# Altium schematic symbol library 5.4 - 2.0mm连接器(PHB2.0_PHD2.0_2.0排针排母).SchLib: 38 symbols
Pins are listed as number, name and electrical type; pins without a type are passive.

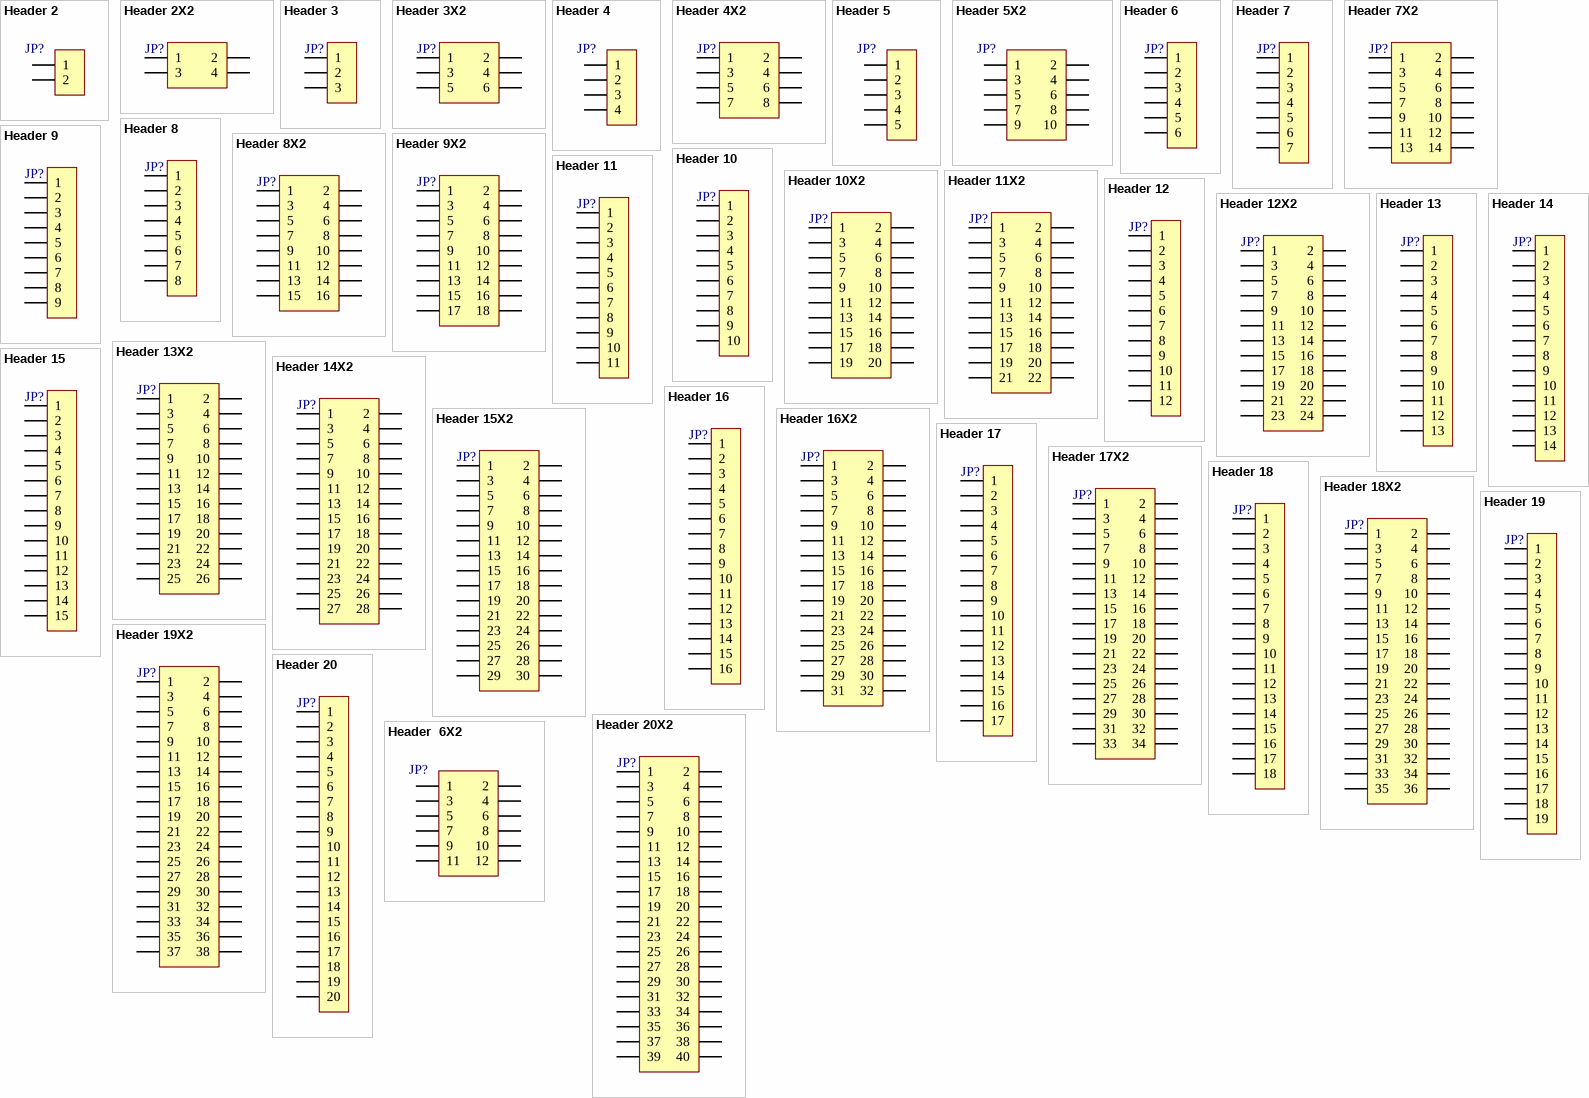
[diagram p0: symbols Header 2 to Header  6X2]

## Header 2
designator JP?, comment HDR-1X2  (value not drawn)
2P接插件; 以赠品形式获赠本封装库的买家，还可联系卖家免费指导AD软件使用: 联系卖家 免费技术支持; 联系卖家，免费查找封装: 唯一出售店铺网址https://shop463601444.taobao.com; BOM名称: 2P接插件
footprint PH2.0-W-2P (长：5.9mm，宽：6mm，高：4.7mm)
footprint PH2.0-L-2P (长：5.9mm，宽：4.7mm，高：6mm)
footprint PH2.0-WT-2P (长：8mm，宽：7.6mm，高：5.5mm)
footprint PH2.0-LT-2P (长：8mm，宽：5.5mm，高：6.1mm)
footprint HDR2.0-LI-2P (直插，脚距：2.0mm)
footprint HDR2.0-M-LI-2P (直插排母，脚距：2.0mm)
pins: 1, 2

## Header 2X2
designator JP?, comment Header2X2  (value not drawn)
2*2P接插件; 以赠品形式获赠本封装库的买家，还可联系卖家免费指导AD软件使用: 联系卖家 免费技术支持; 联系卖家，免费查找封装: 唯一出售店铺网址https://shop463601444.taobao.com
footprint PHB2.0-LI-2x2P (长：6mm，宽：7.3mm，高：7.8mm)
footprint PHD2.0-LI-2x2P (4脚，长：6mm，宽：5mm，高：6.5mm)
pins: 1, 2, 3, 4

## Header 3
designator JP?, comment HDR-1X3  (value not drawn)
3P接插件; 以赠品形式获赠本封装库的买家，还可联系卖家免费指导AD软件使用: 联系卖家 免费技术支持; 联系卖家，免费查找封装: 唯一出售店铺网址https://shop463601444.taobao.com; BOM名称: 3P接插件
footprint PH2.0-W-3P (长：7.9mm，宽：6mm，高：4.7mm)
footprint PH2.0-L-3P (长：7.9mm，宽：4.7mm，高：6mm        淘宝ID:黄晶宝石)
footprint PH2.0-WT-3P (长：10mm，宽：7.6mm，高：5.5mm)
footprint PH2.0-LT-3P (长：10mm，宽：5.5mm，高：6.1mm)
footprint HDR2.0-LI-3P (直插，脚距：2.0mm)
footprint HDR2.0-M-LI-3P (直插排母，脚距：2.0mm)
pins: 1, 2, 3

## Header 3X2
designator JP?, comment Header3X2  (value not drawn)
3*2P接插件; 以赠品形式获赠本封装库的买家，还可联系卖家免费指导AD软件使用: 联系卖家 免费技术支持; 联系卖家，免费查找封装: 唯一出售店铺网址https://shop463601444.taobao.com
footprint PHB2.0-LI-2x3P (长：8mm，宽：7.3mm，高：7.8mm)
footprint PHD2.0-LI-2x3P (6脚，长：8mm，宽：5mm，高：6.5mm)
pins: 1, 2, 3, 4, 5, 6

## Header 4
designator JP?, comment HDR-1X4  (value not drawn)
4P接插件; 以赠品形式获赠本封装库的买家，还可联系卖家免费指导AD软件使用: 联系卖家 免费技术支持; 联系卖家，免费查找封装: 唯一出售店铺网址https://shop463601444.taobao.com
footprint PH2.0-W-4P (长：9.9mm，宽：6mm，高：4.7mm)
footprint PH2.0-L-4P (长：9.9mm，宽：4.7mm，高：6mm    淘宝ID:黄晶宝石)
footprint PH2.0-WT-4P (长：12mm，宽：7.6mm，高：5.5mm)
footprint PH2.0-LT-4P (长：12mm，宽：5.5mm，高：6.1mm)
footprint HDR2.0-LI-4P (直插，脚距：2.0mm)
footprint HDR2.0-M-LI-4P (直插排母，脚距：2.0mm)
pins: 1, 2, 3, 4

## Header 4X2
designator JP?  (value not drawn)
4*2P接插件; 以赠品形式获赠本封装库的买家，还可联系卖家免费指导AD软件使用: 联系卖家 免费技术支持; 联系卖家，免费查找封装: 唯一出售店铺网址https://shop463601444.taobao.com
footprint PHB2.0-LI-2x4P (长：10mm，宽：7.3mm，高：7.8mm)
footprint PHD2.0-LI-2x4P (8脚，长：10mm，宽：5mm，高：6.5mm)
pins: 1, 2, 3, 4, 5, 6, 7, 8

## Header 5
designator JP?, comment HDR-1X5  (value not drawn)
5P接插件; 以赠品形式获赠本封装库的买家，还可联系卖家免费指导AD软件使用: 联系卖家 免费技术支持; 联系卖家，免费查找封装: 唯一出售店铺网址https://shop463601444.taobao.com
footprint PH2.0-W-5P (长：11.9mm，宽：6mm，高：4.7mm)
footprint PH2.0-L-5P (长：11.9mm，宽：4.7mm，高：6mm  淘宝ID:黄晶宝石)
footprint PH2.0-WT-5P (长：14mm，宽：7.6mm，高：5.5mm)
footprint PH2.0-LT-5P (长：14mm，宽：5.5mm，高：6.1mm)
footprint HDR2.0-LI-5P (直插，脚距：2.0mm)
footprint HDR2.0-M-LI-5P (直插排母，脚距：2.0mm)
pins: 1, 2, 3, 4, 5

## Header 5X2
designator JP?  (value not drawn)
5*2P接插件; 以赠品形式获赠本封装库的买家，还可联系卖家免费指导AD软件使用: 联系卖家 免费技术支持; 联系卖家，免费查找封装: 唯一出售店铺网址https://shop463601444.taobao.com
footprint PHB2.0-LI-2x5P (长：12mm，宽：7.3mm，高：7.8mm)
footprint PHD2.0-LI-2x5P (10脚，长：12mm，宽：5mm，高：6.5mm)
pins: 1, 2, 3, 4, 5, 6, 7, 8, 9, 10

## Header 6
designator JP?, comment HDR-1X6  (value not drawn)
6P接插件; 以赠品形式获赠本封装库的买家，还可联系卖家免费指导AD软件使用: 联系卖家 免费技术支持; 联系卖家，免费查找封装: 唯一出售店铺网址https://shop463601444.taobao.com
footprint PH2.0-W-6P (长：13.9mm，宽：6mm，高：4.7mm)
footprint PH2.0-L-6P (长：13.9mm，宽：4.7mm，高：6mm    淘宝ID:黄晶宝石)
footprint PH2.0-WT-6P (长：16mm，宽：7.6mm，高：5.5mm)
footprint PH2.0-LT-6P (长：16mm，宽：5.5mm，高：6.1mm)
footprint HDR2.0-LI-6P (直插，脚距：2.0mm)
footprint HDR2.0-M-LI-6P (直插排母，脚距：2.0mm)
pins: 1, 2, 3, 4, 5, 6

## Header 7
designator JP?, comment HDR-1X7  (value not drawn)
7P接插件; 以赠品形式获赠本封装库的买家，还可联系卖家免费指导AD软件使用: 联系卖家 免费技术支持; 联系卖家，免费查找封装: 唯一出售店铺网址https://shop463601444.taobao.com
footprint PH2.0-W-7P (长：15.9mm，宽：6mm，高：4.7mm)
footprint PH2.0-L-7P (长：15.9mm，宽：4.7mm，高：6mm)
footprint PH2.0-WT-7P (长：18mm，宽：7.6mm，高：5.5mm)
footprint PH2.0-LT-7P (长：18mm，宽：5.5mm，高：6.1mm)
footprint HDR2.0-LI-7P (直插，脚距：2.0mm)
footprint HDR2.0-M-LI-7P (直插排母，脚距：2.0mm)
pins: 1, 2, 3, 4, 5, 6, 7

## Header 7X2
designator JP?, comment Header 2X7  (value not drawn)
7*2P接插件; 以赠品形式获赠本封装库的买家，还可联系卖家免费指导AD软件使用: 联系卖家 免费技术支持; 联系卖家，免费查找封装: 唯一出售店铺网址https://shop463601444.taobao.com
footprint PHB2.0-LI-2x7P (长：16mm，宽：7.3mm，高：7.8mm)
footprint PHD2.0-LI-2x7P (14脚，长：16mm，宽：5mm，高：6.5mm)
pins: 1, 2, 3, 4, 5, 6, 7, 8, 9, 10, 11, 12, 13, 14

## Header 8
designator JP?, comment HDR-1X8  (value not drawn)
8P接插件; 以赠品形式获赠本封装库的买家，还可联系卖家免费指导AD软件使用: 联系卖家 免费技术支持; 联系卖家，免费查找封装: 唯一出售店铺网址https://shop463601444.taobao.com
footprint PH2.0-W-8P (长：17.9mm，宽：6mm，高：4.7mm     淘宝ID:黄晶宝石)
footprint PH2.0-L-8P (长：17.9mm，宽：4.7mm，高：6mm)
footprint PH2.0-WT-8P (长：20mm，宽：7.6mm，高：5.5mm     淘宝ID:黄晶宝石)
footprint PH2.0-LT-8P (长：20mm，宽：5.5mm，高：6.1mm     淘宝ID:黄晶宝石)
footprint HDR2.0-LI-8P (直插，脚距：2.0mm)
footprint HDR2.0-M-LI-8P (直插排母，脚距：2.0mm)
pins: 1, 2, 3, 4, 5, 6, 7, 8

## Header 8X2
designator JP?  (value not drawn)
8*2P接插件; 以赠品形式获赠本封装库的买家，还可联系卖家免费指导AD软件使用: 联系卖家 免费技术支持; 联系卖家，免费查找封装: 唯一出售店铺网址https://shop463601444.taobao.com
footprint PHB2.0-LI-2x8P (长：18mm，宽：7.3mm，高：7.8mm)
footprint PHD2.0-LI-2x8P (16脚，长：18mm，宽：5mm，高：6.5mm)
pins: 1, 2, 3, 4, 5, 6, 7, 8, 9, 10, 11, 12, 13, 14, 15, 16

## Header 9
designator JP?, comment HDR-1X9  (value not drawn)
9P接插件; 以赠品形式获赠本封装库的买家，还可联系卖家免费指导AD软件使用: 联系卖家 免费技术支持; 联系卖家，免费查找封装: 唯一出售店铺网址https://shop463601444.taobao.com
footprint PH2.0-W-9P (长：19.9mm，宽：6mm，高：4.7mm)
footprint PH2.0-L-9P (长：19.9mm，宽：4.7mm，高：6mm)
footprint PH2.0-WT-9P (长：22mm，宽：7.6mm，高：5.5mm)
footprint PH2.0-LT-9P (长：22mm，宽：5.5mm，高：6.1mm)
footprint HDR2.0-LI-9P (直插，脚距：2.0mm)
footprint HDR2.0-M-LI-9P (直插排母，脚距：2.0mm)
pins: 1, 2, 3, 4, 5, 6, 7, 8, 9

## Header 9X2
designator JP?  (value not drawn)
9*2P接插件; 以赠品形式获赠本封装库的买家，还可联系卖家免费指导AD软件使用: 联系卖家 免费技术支持; 联系卖家，免费查找封装: 唯一出售店铺网址https://shop463601444.taobao.com
footprint PHB2.0-LI-2x9P (长：20mm，宽：7.3mm，高：7.8mm)
footprint PHD2.0-LI-2x9P (18脚，长：20mm，宽：5mm，高：6.5mm)
pins: 1, 2, 3, 4, 5, 6, 7, 8, 9, 10, 11, 12, 13, 14, 15, 16, 17, 18

## Header 10
designator JP?, comment HDR-1X10  (value not drawn)
10P接插件; 以赠品形式获赠本封装库的买家，还可联系卖家免费指导AD软件使用: 联系卖家 免费技术支持; 联系卖家，免费查找封装: 唯一出售店铺网址https://shop463601444.taobao.com
footprint PH2.0-W-10P (长：21.9mm，宽：6mm，高：4.7mm)
footprint PH2.0-L-10P (长：21.9mm，宽：4.7mm，高：6mm)
footprint PH2.0-WT-10P (长：24mm，宽：7.6mm，高：5.5mm    淘宝ID:黄晶宝石)
footprint PH2.0-LT-10P (长：24mm，宽：5.5mm，高：6.1mm)
footprint HDR2.0-LI-10P (直插，脚距：2.0mm)
footprint HDR2.0-M-LI-10P (直插排母，脚距：2.0mm)
pins: 1, 2, 3, 4, 5, 6, 7, 8, 9, 10

## Header 10X2
designator JP?, comment Header 2X10  (value not drawn)
10*2P接插件; 以赠品形式获赠本封装库的买家，还可联系卖家免费指导AD软件使用: 联系卖家 免费技术支持; 联系卖家，免费查找封装: 唯一出售店铺网址https://shop463601444.taobao.com
footprint PHB2.0-LI-2x10P (长：22mm，宽：7.3mm，高：7.8mm)
footprint PHD2.0-LI-2x10P (20脚，长：22mm，宽：5mm，高：6.5mm)
pins: 1, 2, 3, 4, 5, 6, 7, 8, 9, 10, 11, 12, 13, 14, 15, 16, 17, 18, 19, 20

## Header 11
designator JP?, comment HDR-1X11  (value not drawn)
11P接插件; 以赠品形式获赠本封装库的买家，还可联系卖家免费指导AD软件使用: 联系卖家 免费技术支持; 联系卖家，免费查找封装: 唯一出售店铺网址https://shop463601444.taobao.com; BOM名称: 11P接插件
footprint PH2.0-W-11P (长：23.9mm，宽：6mm，高：4.7mm)
footprint PH2.0-L-11P (接插件/1A)
footprint PH2.0-WT-11P (长：26mm，宽：7.6mm，高：5.5mm)
footprint PH2.0-LT-11P (长：26mm，宽：5.5mm，高：6.1mm)
footprint HDR2.0-LI-11P (直插，脚距：2.0mm)
footprint HDR2.0-M-LI-11P (直插排母，脚距：2.0mm)
pins: 1, 2, 3, 4, 5, 6, 7, 8, 9, 10, 11

## Header 11X2
designator JP?, comment Header 2X11  (value not drawn)
11*2P接插件; 以赠品形式获赠本封装库的买家，还可联系卖家免费指导AD软件使用: 联系卖家 免费技术支持; 联系卖家，免费查找封装: 唯一出售店铺网址https://shop463601444.taobao.com
footprint PHB2.0-LI-2x11P (长：24mm，宽：7.3mm，高：7.8mm)
footprint PHD2.0-LI-2x11P (22脚，长：24mm，宽：5mm，高：6.5mm)
pins: 1, 2, 3, 4, 5, 6, 7, 8, 9, 10, 11, 12, 13, 14, 15, 16, 17, 18, 19, 20, 21, 22

## Header 12
designator JP?, comment HDR-1X12  (value not drawn)
12P接插件; 以赠品形式获赠本封装库的买家，还可联系卖家免费指导AD软件使用: 联系卖家 免费技术支持; 联系卖家，免费查找封装: 唯一出售店铺网址https://shop463601444.taobao.com; BOM名称: 12P接插件
footprint PH2.0-W-12P (长：25.9mm，宽：6mm，高：4.7mm)
footprint PH2.0-L-12P (长：23.9mm，宽：4.7mm，高：6mm)
footprint PH2.0-WT-12P (长：28mm，宽：7.6mm，高：5.5mm)
footprint PH2.0-LT-12P (长：28mm，宽：5.5mm，高：6.1mm)
footprint HDR2.0-LI-12P (直插，脚距：2.0mm)
footprint HDR2.0-M-LI-12P (直插排母，脚距：2.0mm)
pins: 1, 2, 3, 4, 5, 6, 7, 8, 9, 10, 11, 12

## Header 12X2
designator JP?, comment Header 2X11  (value not drawn)
12*2P接插件; 以赠品形式获赠本封装库的买家，还可联系卖家免费指导AD软件使用: 联系卖家 免费技术支持; 联系卖家，免费查找封装: 唯一出售店铺网址https://shop463601444.taobao.com; BOM名称: 12*2P接插件
footprint PHB2.0-LI-2x12P (长：26mm，宽：7.3mm，高：7.8mm)
footprint PHD2.0-LI-2x12P (24脚，长：26mm，宽：5mm，高：6.5mm)
pins: 1, 2, 3, 4, 5, 6, 7, 8, 9, 10, 11, 12, 13, 14, 15, 16, 17, 18, 19, 20, 21, 22, 23, 24

## Header 13
designator JP?, comment HDR-1X13  (value not drawn)
13P接插件; 以赠品形式获赠本封装库的买家，还可联系卖家免费指导AD软件使用: 联系卖家 免费技术支持; 联系卖家，免费查找封装: 唯一出售店铺网址https://shop463601444.taobao.com; BOM名称: 13P接插件
footprint PH2.0-WT-13P (长：30mm，宽：7.6mm，高：5.5mm)
footprint PH2.0-L-13P (长：25.9mm，宽：4.7mm，高：6mm)
footprint PH2.0-LT-13P (长：30mm，宽：5.5mm，高：6.1mm  淘宝ID:黄晶宝石)
footprint PH2.0-W-13P (长：27.9mm，宽：6mm，高：4.7mm)
footprint HDR2.0-M-LI-13P (淘宝ID:黄晶宝石)
footprint HDR2.0-LI-15P (直插，脚距：2.0mm                 联系卖家 免费查找封装)
pins: 1, 2, 3, 4, 5, 6, 7, 8, 9, 10, 11, 12, 13

## Header 13X2
designator JP?, comment Header 2X11  (value not drawn)
13*2P接插件; 以赠品形式获赠本封装库的买家，还可联系卖家免费指导AD软件使用: 联系卖家 免费技术支持; 联系卖家，免费查找封装: 唯一出售店铺网址https://shop463601444.taobao.com
footprint PHB2.0-LI-2x13P (长：28mm，宽：7.3mm，高：7.8mm)
footprint PHD2.0-LI-2x13P (26脚，长：28mm，宽：5mm，高：6.5mm)
pins: 1, 2, 3, 4, 5, 6, 7, 8, 9, 10, 11, 12, 13, 14, 15, 16, 17, 18, 19, 20, 21, 22, 23, 24, 25, 26

## Header 14
designator JP?, comment HDR-1X14  (value not drawn)
14P接插件; 以赠品形式获赠本封装库的买家，还可联系卖家免费指导AD软件使用: 联系卖家 免费技术支持; 联系卖家，免费查找封装: 唯一出售店铺网址https://shop463601444.taobao.com; BOM名称: 14P接插件
footprint PH2.0-WT-14P (长：32mm，宽：7.6mm，高：5.5mm)
footprint PH2.0-W-14P (长：29.9mm，宽：6mm，高：4.7mm)
footprint PH2.0-L-14P (长：27.9mm，宽：4.7mm，高：6mm)
footprint PH2.0-LT-14P (长：32mm，宽：5.5mm，高：6.1mm)
footprint HDR2.0-LI-14P (直插，脚距：2.0mm                 联系卖家 免费查找封装)
pins: 1, 2, 3, 4, 5, 6, 7, 8, 9, 10, 11, 12, 13, 14

## Header 14X2
designator JP?, comment Header 2X11  (value not drawn)
14*2P接插件; 以赠品形式获赠本封装库的买家，还可联系卖家免费指导AD软件使用: 联系卖家 免费技术支持; 联系卖家，免费查找封装: 唯一出售店铺网址https://shop463601444.taobao.com; BOM名称: 14*2P接插件
footprint PHB2.0-LI-2x14P (长：30mm，宽：7.3mm，高：7.8mm)
footprint PHD2.0-LI-2x14P (28脚，长：30mm，宽：5mm，高：6.5mm)
pins: 1, 2, 3, 4, 5, 6, 7, 8, 9, 10, 11, 12, 13, 14, 15, 16, 17, 18, 19, 20, 21, 22, 23, 24, 25, 26, 27, 28

## Header 15
designator JP?, comment HDR-1X15  (value not drawn)
15P接插件; 以赠品形式获赠本封装库的买家，还可联系卖家免费指导AD软件使用: 联系卖家 免费技术支持; 联系卖家，免费查找封装: 唯一出售店铺网址https://shop463601444.taobao.com; BOM名称: 15P接插件
footprint PH2.0-WT-15P (长：34mm，宽：7.6mm，高：5.5mm)
footprint PH2.0-LT-15P (长：34mm，宽：5.5mm，高：6.1mm)
footprint PH2.0-W-15P (长：31.9mm，宽：6mm，高：4.7mm)
footprint PH2.0-L-15P (长：27.9mm，宽：4.7mm，高：6mm)
footprint HDR2.0-M-LI-15P (直插排母，脚距：2.0mm                 联系卖家 免费查找封装)
footprint HDR2.0-LI-15P (直插，脚距：2.0mm                 联系卖家 免费查找封装)
pins: 1, 2, 3, 4, 5, 6, 7, 8, 9, 10, 11, 12, 13, 14, 15

## Header 15X2
designator JP?, comment Header 2X11  (value not drawn)
15*2P接插件; 以赠品形式获赠本封装库的买家，还可联系卖家免费指导AD软件使用: 联系卖家 免费技术支持; 联系卖家，免费查找封装: 唯一出售店铺网址https://shop463601444.taobao.com
footprint PHB2.0-LI-2x15P (长：32mm，宽：7.3mm，高：7.8mm)
footprint PHD2.0-LI-2x15P (30脚，长：32mm，宽：5mm，高：6.5mm)
pins: 1, 2, 3, 4, 5, 6, 7, 8, 9, 10, 11, 12, 13, 14, 15, 16, 17, 18, 19, 20, 21, 22, 23, 24, 25, 26, 27, 28, 29, 30

## Header 16
designator JP?, comment HDR-1X16  (value not drawn)
16P接插件; 以赠品形式获赠本封装库的买家，还可联系卖家免费指导AD软件使用: 联系卖家 免费技术支持; 联系卖家，免费查找封装: 唯一出售店铺网址https://shop463601444.taobao.com; BOM名称: 16P接插件
footprint PH2.0-WT-16P (长：36mm，宽：7.6mm，高：5.5mm)
footprint PH2.0-LT-16P (长：36mm，宽：5.5mm，高：6.1mm)
footprint PH2.0-L-16P (长：29.9mm，宽：4.7mm，高：6mm)
footprint PH2.0-W-16P (长：33.9mm，宽：6mm，高：4.7mm)
footprint HDR2.0-LI-16P (直插，脚距：2.0mm                 联系卖家 免费查找封装)
footprint HDR2.0-M-LI-16P (直插排母，脚距：2.0mm                 联系卖家 免费查找封装)
pins: 1, 2, 3, 4, 5, 6, 7, 8, 9, 10, 11, 12, 13, 14, 15, 16

## Header 16X2
designator JP?, comment Header 2X11  (value not drawn)
16*2P接插件; 以赠品形式获赠本封装库的买家，还可联系卖家免费指导AD软件使用: 联系卖家 免费技术支持; 联系卖家，免费查找封装: 唯一出售店铺网址https://shop463601444.taobao.com
footprint PHD2.0-LI-2x16P (32脚，长：34mm，宽：5mm，高：6.5mm)
pins: 1, 2, 3, 4, 5, 6, 7, 8, 9, 10, 11, 12, 13, 14, 15, 16, 17, 18, 19, 20, 21, 22, 23, 24, 25, 26, 27, 28, 29, 30, 31, 32

## Header 17
designator JP?, comment HDR-1X17  (value not drawn)
17P接插件; 以赠品形式获赠本封装库的买家，还可联系卖家免费指导AD软件使用: 联系卖家 免费技术支持; 联系卖家，免费查找封装: 唯一出售店铺网址https://shop463601444.taobao.com
footprint PH2.0-WS-17P (长：38mm，宽：7.6mm，高：5.5mm)
pins: 1, 2, 3, 4, 5, 6, 7, 8, 9, 10, 11, 12, 13, 14, 15, 16, 17

## Header 17X2
designator JP?, comment Header 2X11  (value not drawn)
17*2P接插件; 以赠品形式获赠本封装库的买家，还可联系卖家免费指导AD软件使用: 联系卖家 免费技术支持; 联系卖家，免费查找封装: 唯一出售店铺网址https://shop463601444.taobao.com
footprint PHD2.0-LI-2x17P (34脚，长：36mm，宽：5mm，高：6.5mm)
pins: 1, 2, 3, 4, 5, 6, 7, 8, 9, 10, 11, 12, 13, 14, 15, 16, 17, 18, 19, 20, 21, 22, 23, 24, 25, 26, 27, 28, 29, 30, 31, 32, 33, 34

## Header 18
designator JP?, comment HDR-1X18  (value not drawn)
18P接插件; 以赠品形式获赠本封装库的买家，还可联系卖家免费指导AD软件使用: 联系卖家 免费技术支持; 联系卖家，免费查找封装: 唯一出售店铺网址https://shop463601444.taobao.com
footprint PH2.0-WS-18P (长：40mm，宽：7.6mm，高：5.5mm)
pins: 1, 2, 3, 4, 5, 6, 7, 8, 9, 10, 11, 12, 13, 14, 15, 16, 17, 18

## Header 18X2
designator JP?, comment Header 2X11  (value not drawn)
18*2P接插件; 以赠品形式获赠本封装库的买家，还可联系卖家免费指导AD软件使用: 联系卖家 免费技术支持; 联系卖家，免费查找封装: 唯一出售店铺网址https://shop463601444.taobao.com
footprint PHD2.0-LI-2x18P (36脚，长：38mm，宽：5mm，高：6.5mm)
pins: 1, 2, 3, 4, 5, 6, 7, 8, 9, 10, 11, 12, 13, 14, 15, 16, 17, 18, 19, 20, 21, 22, 23, 24, 25, 26, 27, 28, 29, 30, 31, 32, 33, 34, 35, 36

## Header 19
designator JP?, comment HDR-1X19  (value not drawn)
19P接插件; 以赠品形式获赠本封装库的买家，还可联系卖家免费指导AD软件使用: 联系卖家 免费技术支持; 联系卖家，免费查找封装: 唯一出售店铺网址https://shop463601444.taobao.com
footprint PH2.0-WS-19P (长：42mm，宽：7.6mm，高：5.5mm)
pins: 1, 2, 3, 4, 5, 6, 7, 8, 9, 10, 11, 12, 13, 14, 15, 16, 17, 18, 19

## Header 19X2
designator JP?, comment Header 2X11  (value not drawn)
19*2P接插件; 以赠品形式获赠本封装库的买家，还可联系卖家免费指导AD软件使用: 联系卖家 免费技术支持; 联系卖家，免费查找封装: 唯一出售店铺网址https://shop463601444.taobao.com
footprint PHD2.0-LI-2x19P (38脚，长：40mm，宽：5mm，高：6.5mm)
pins: 1, 2, 3, 4, 5, 6, 7, 8, 9, 10, 11, 12, 13, 14, 15, 16, 17, 18, 19, 20, 21, 22, 23, 24, 25, 26, 27, 28, 29, 30, 31, 32, 33, 34, 35, 36, 37, 38

## Header 20
designator JP?, comment HDR-1X20  (value not drawn)
20P接插件; 以赠品形式获赠本封装库的买家，还可联系卖家免费指导AD软件使用: 联系卖家 免费技术支持; 联系卖家，免费查找封装: 唯一出售店铺网址https://shop463601444.taobao.com
footprint PH2.0-WS-20P (长：44mm，宽：7.6mm，高：5.5mm)
footprint HDR2.0-LI-20P (直插，脚距：2.0mm                 联系卖家 免费查找封装)
footprint HDR2.0-M-LI-20P (直插排母，脚距：2.0mm                 联系卖家 免费查找封装)
pins: 1, 2, 3, 4, 5, 6, 7, 8, 9, 10, 11, 12, 13, 14, 15, 16, 17, 18, 19, 20

## Header 20X2
designator JP?, comment Header 2X11  (value not drawn)
20*2P接插件; 以赠品形式获赠本封装库的买家，还可联系卖家免费指导AD软件使用: 联系卖家 免费技术支持; 联系卖家，免费查找封装: 唯一出售店铺网址https://shop463601444.taobao.com; BOM名称: 20*2P接插件
footprint PHD2.0-LI-2x20P (40脚，长：42mm，宽：5mm，高：6.5mm)
pins: 1, 2, 3, 4, 5, 6, 7, 8, 9, 10, 11, 12, 13, 14, 15, 16, 17, 18, 19, 20, 21, 22, 23, 24, 25, 26, 27, 28, 29, 30, 31, 32, 33, 34, 35, 36, 37, 38, 39, 40

## Header  6X2
designator JP?, comment Header 6X2  (value not drawn)
6*2P接插件; 以赠品形式获赠本封装库的买家，还可联系卖家免费指导AD软件使用: 联系卖家 免费技术支持; 联系卖家，免费查找封装: 唯一出售店铺网址https://shop463601444.taobao.com
footprint PHB2.0-LI-2x6P (长：14mm，宽：7.3mm，高：7.8mm)
footprint PHD2.0-LI-2x6P (12脚，长：14mm，宽：5mm，高：6.5mm)
pins: 1, 2, 3, 4, 5, 6, 7, 8, 9, 10, 11, 12